# EAGLE library part SDIO-SDCARD (library BB8)
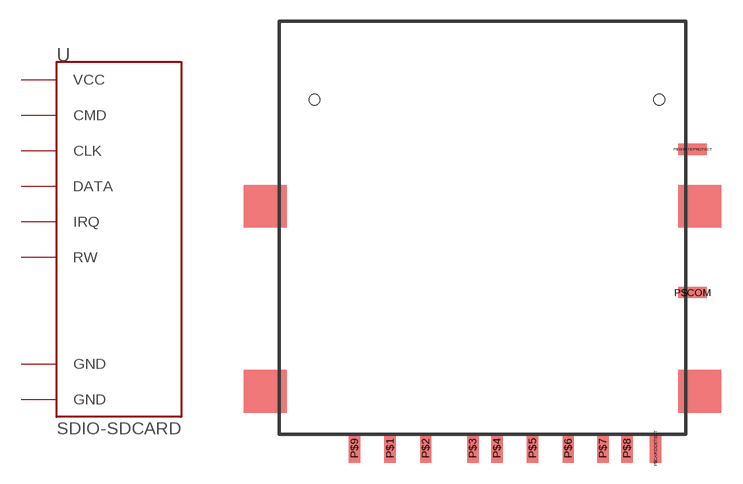
[diagram p17: symbol with the pads of SD-5738; footprint SD-5738]

Designator prefix -

## SDIO-SDCARD  [SD-5738]
P$2  CMD
P$3  GND
P$4  VCC
P$5  CLK
P$6  GND
P$7  DATA
P$8  IRQ
P$9  RW

## Footprint SD-5738 (pad centres in mm)
smd 0.8 x 2: P$1 -6.88,-1; P$2 -4.38,-1; P$3 -1.08,-1; P$4 0.62,-1; P$5 3.12,-1; P$6 5.62,-1; P$7 8.05,-1; P$8 9.75,-1; P$9 -9.38,-1; P$CARDDETECT 11.75,-1
smd 2 x 0.8: P$COM 14.35,9.95; P$WRITEPROTECT 14.35,20
hole 0.75 at -12.2,23.5
hole 0.75 at 12,23.5